# Altium footprint library TWO_WIRE_HOLE.PcbLib: 1 footprints
Each footprint in its own frame and in the unit in brackets; x right, y up, seen from the top. Pads: shape width x height; smd on the part's side, far side on the other; paste and mask are expansions set on the pad; w line width, h text height; cw(c..) or ccw(c..) is an arc to the next point about the centre after c.
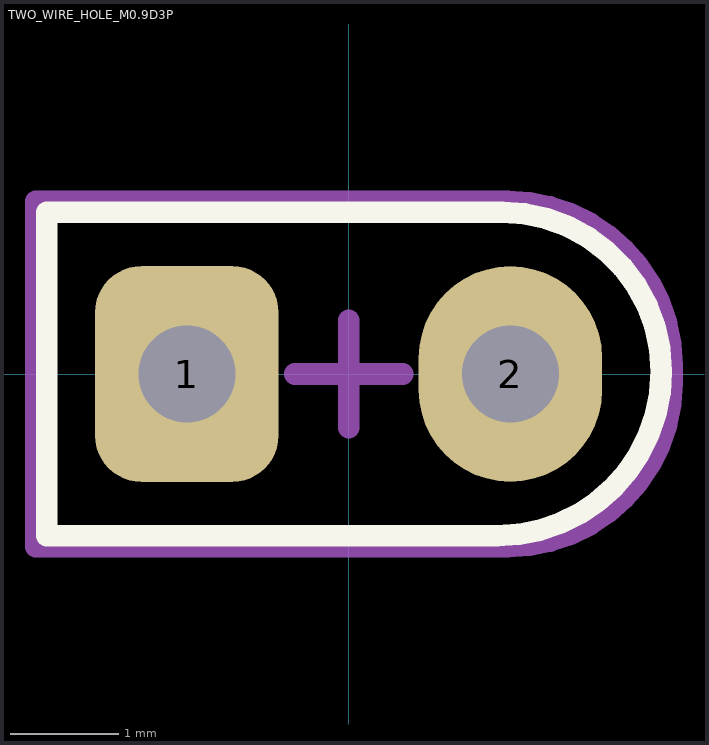
[diagram p0: the footprint, top view; thin cyan lines are the x and y axes]

## TWO_WIRE_HOLE_M0.9D3P [mm] "0.9mm diamateter holes, 3mm separation"
pads (2):
  rrect50% 1.7x2 hole 0.9: 1(-1.5,0)
  oval 1.7x2 hole 0.9: 2(1.5,0)
Top Overlay:
  lines w0.2: -2.8,-1.5 1.376,-1.5 ccw(c1.376,0.024) 2.9,0.024 ccw(c1.424,0.024) 1.424,1.5 -2.8,1.5 -2.8,-1.5
Bottom Overlay:
  lines w0.2: -2.8,-1.5 -2.8,1.5 1.424,1.5 cw(c1.424,0.024) 2.9,0.024 cw(c1.376,0.024) 1.376,-1.5 -2.8,-1.5
Mechanical 15:
  lines w0.2: -0.5,0 0.5,0 ; 0,-0.5 0,0.5 ; -2.9,-1.6 -2.9,1.6 1.476,1.6 cw(c1.476,0.076) 3,0.076 3,-0.076 cw(c1.476,-0.076) 1.476,-1.6 1.3,-1.6 -2.9,-1.6